# EAGLE library part CON6P2R (library ads4)
6-pin dual-row connector
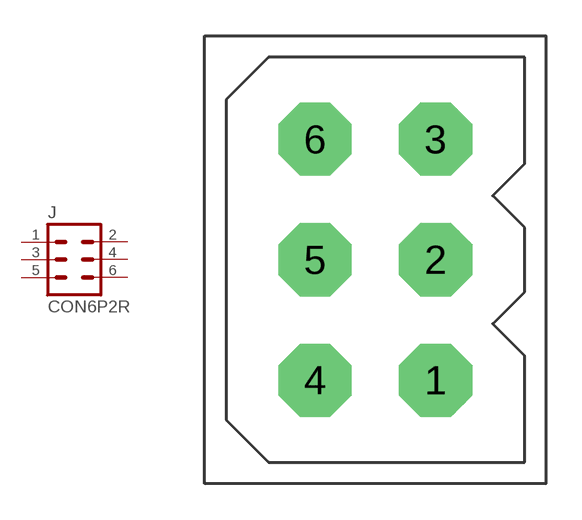
[diagram p29: symbol with the pads of MOLEX03092062; footprint MOLEX03092062]

Designator prefix J

## CON6P2RMOLEX03092062  [MOLEX03092062]
1  1  pas
2  2  pas
3  3  pas
4  4  pas
5  5  pas
6  6  pas

## Footprint MOLEX03092062 (pad centres in mm)
Molex 03-09-2062 Connector
drill 1.676 pad 3.048 octagon: 1 2.515,-5.029; 2 2.515,0; 3 2.515,5.029; 4 -2.515,-5.029; 5 -2.515,0; 6 -2.515,5.029